# EAGLE library part MK20DX128VFM5 (library Board4You)
MCU, KINETIS, K20, CORTEX M4, QFN-32
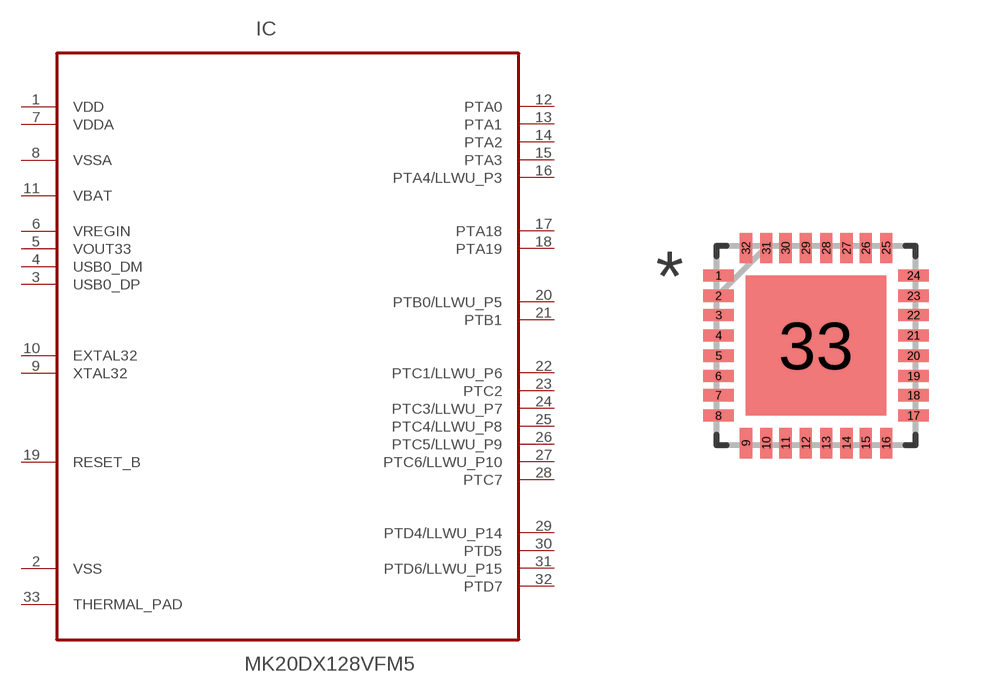
[diagram p4: symbol with the pads of QFN50P500X500X100-33N; footprint QFN50P500X500X100-33N]

Designator prefix IC

## MK20DX128VFM5 (MPN: MK20DX128VFM5; OC_FARNELL: 2133567; OC_NEWARK: 24W6499; PACKAGE: QFN-32; SUPPLIER: FREESCALE SEMICONDUCTOR)  [QFN50P500X500X100-33N]
1  VDD  pwr
2  VSS  pas
3  USB0_DP  pas
4  USB0_DM  pas
5  VOUT33  out
6  VREGIN  in
7  VDDA  pwr
8  VSSA  pas
9  XTAL32  pas
10  EXTAL32  pas
11  VBAT  pwr
12  PTA0
13  PTA1
14  PTA2
15  PTA3
16  PTA4/LLWU_P3
17  PTA18
18  PTA19
19  RESET_B  pas
20  PTB0/LLWU_P5
21  PTB1
22  PTC1/LLWU_P6
23  PTC2
24  PTC3/LLWU_P7
25  PTC4/LLWU_P8
26  PTC5/LLWU_P9
27  PTC6/LLWU_P10
28  PTC7
29  PTD4/LLWU_P14
30  PTD5
31  PTD6/LLWU_P15
32  PTD7
33  THERMAL_PAD  pas

## Footprint QFN50P500X500X100-33N (pad centres in mm)
smd 0.762 x 0.305: 1 -2.438,1.753; 2 -2.438,1.245; 3 -2.438,0.762; 4 -2.438,0.254; 5 -2.438,-0.254; 6 -2.438,-0.762; 7 -2.438,-1.245; 8 -2.438,-1.753; 17 2.438,-1.753; 18 2.438,-1.245; 19 2.438,-0.762; 20 2.438,-0.254; 21 2.438,0.254; 22 2.438,0.762; 23 2.438,1.245; 24 2.438,1.753
smd 0.305 x 0.762: 9 -1.753,-2.438; 10 -1.245,-2.438; 11 -0.762,-2.438; 12 -0.254,-2.438; 13 0.254,-2.438; 14 0.762,-2.438; 15 1.245,-2.438; 16 1.753,-2.438; 25 1.753,2.438; 26 1.245,2.438; 27 0.762,2.438; 28 0.254,2.438; 29 -0.254,2.438; 30 -0.762,2.438; 31 -1.245,2.438; 32 -1.753,2.438
smd 3.505 x 3.505: 33 0,0